# EAGLE library part NRF24L01 (library deiring-components)
Nordic Semicon
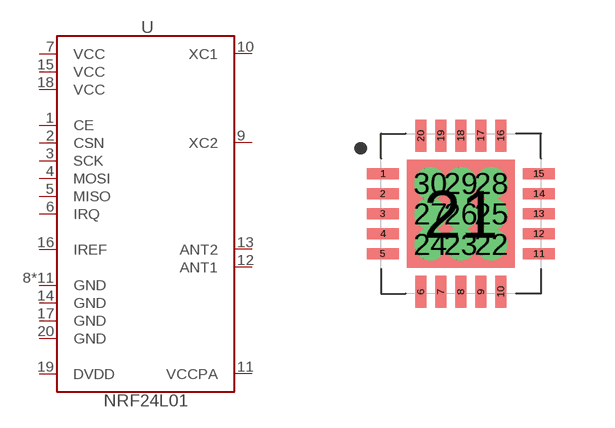
[diagram p18: symbol with the pads of QFN-20; footprint QFN-20]

Designator prefix U

## NRF24L01-QFN-20 (LCSC: C8791; MF: Nordic Semicon; MPN: NRF24L01P-R; VALUE: NRF24L01)  [QFN-20]
1  CE
2  CSN
3  SCK
4  MOSI
5  MISO
6  IRQ
7  VCC  pwr
8  GND  pwr
9  XC2
10  XC1
11  VCCPA
12  ANT1
13  ANT2
14  GND  pwr
15  VCC  pwr
16  IREF
17  GND  pwr
18  VCC  pwr
19  DVDD  pwr
20  GND  pwr
21  GND  pwr
22  GND  pwr
23  GND  pwr
24  GND  pwr
25  GND  pwr
26  GND  pwr
27  GND  pwr
28  GND  pwr
29  GND  pwr
30  GND  pwr

## Footprint QFN-20 (pad centres in mm)
smd 0.811 x 0.264: 1 -1.951,1; 2 -1.951,0.5; 3 -1.951,0; 4 -1.951,-0.5; 5 -1.951,-1; 11 1.951,-1; 12 1.951,-0.5; 13 1.951,0; 14 1.951,0.5; 15 1.951,1
smd 0.264 x 0.811: 6 -1,-1.951; 7 -0.5,-1.951; 8 0,-1.951; 9 0.5,-1.951; 10 1,-1.951; 16 1,1.951; 17 0.5,1.951; 18 0,1.951; 19 -0.5,1.951; 20 -1,1.951
smd 2.7 x 2.7: 21 0,0
drill 0.3 pad 0.5: 22 0.762,-0.762; 23 0,-0.762; 24 -0.762,-0.762; 25 0.762,0; 26 0,0; 27 -0.762,0; 28 0.762,0.762; 29 0,0.762; 30 -0.762,0.762